# Altium schematic symbol library Ferrite.SchLib: 1 symbol
Pins are listed as number, name and electrical type; pins without a type are passive.

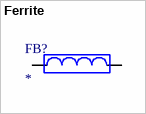
[diagram p0: symbol Ferrite]

## Ferrite
designator FB?
Ferrite Bead
pins: 1, 2